# Altium footprint library SignalCommunications.PCBLIB: 466 footprints (part 25 of 30)
Each footprint in its own frame and in the unit in brackets; x right, y up, seen from the top. Pads: shape width x height; smd on the part's side, far side on the other; paste and mask are expansions set on the pad; w line width, h text height; cw(c..) or ccw(c..) is an arc to the next point about the centre after c.
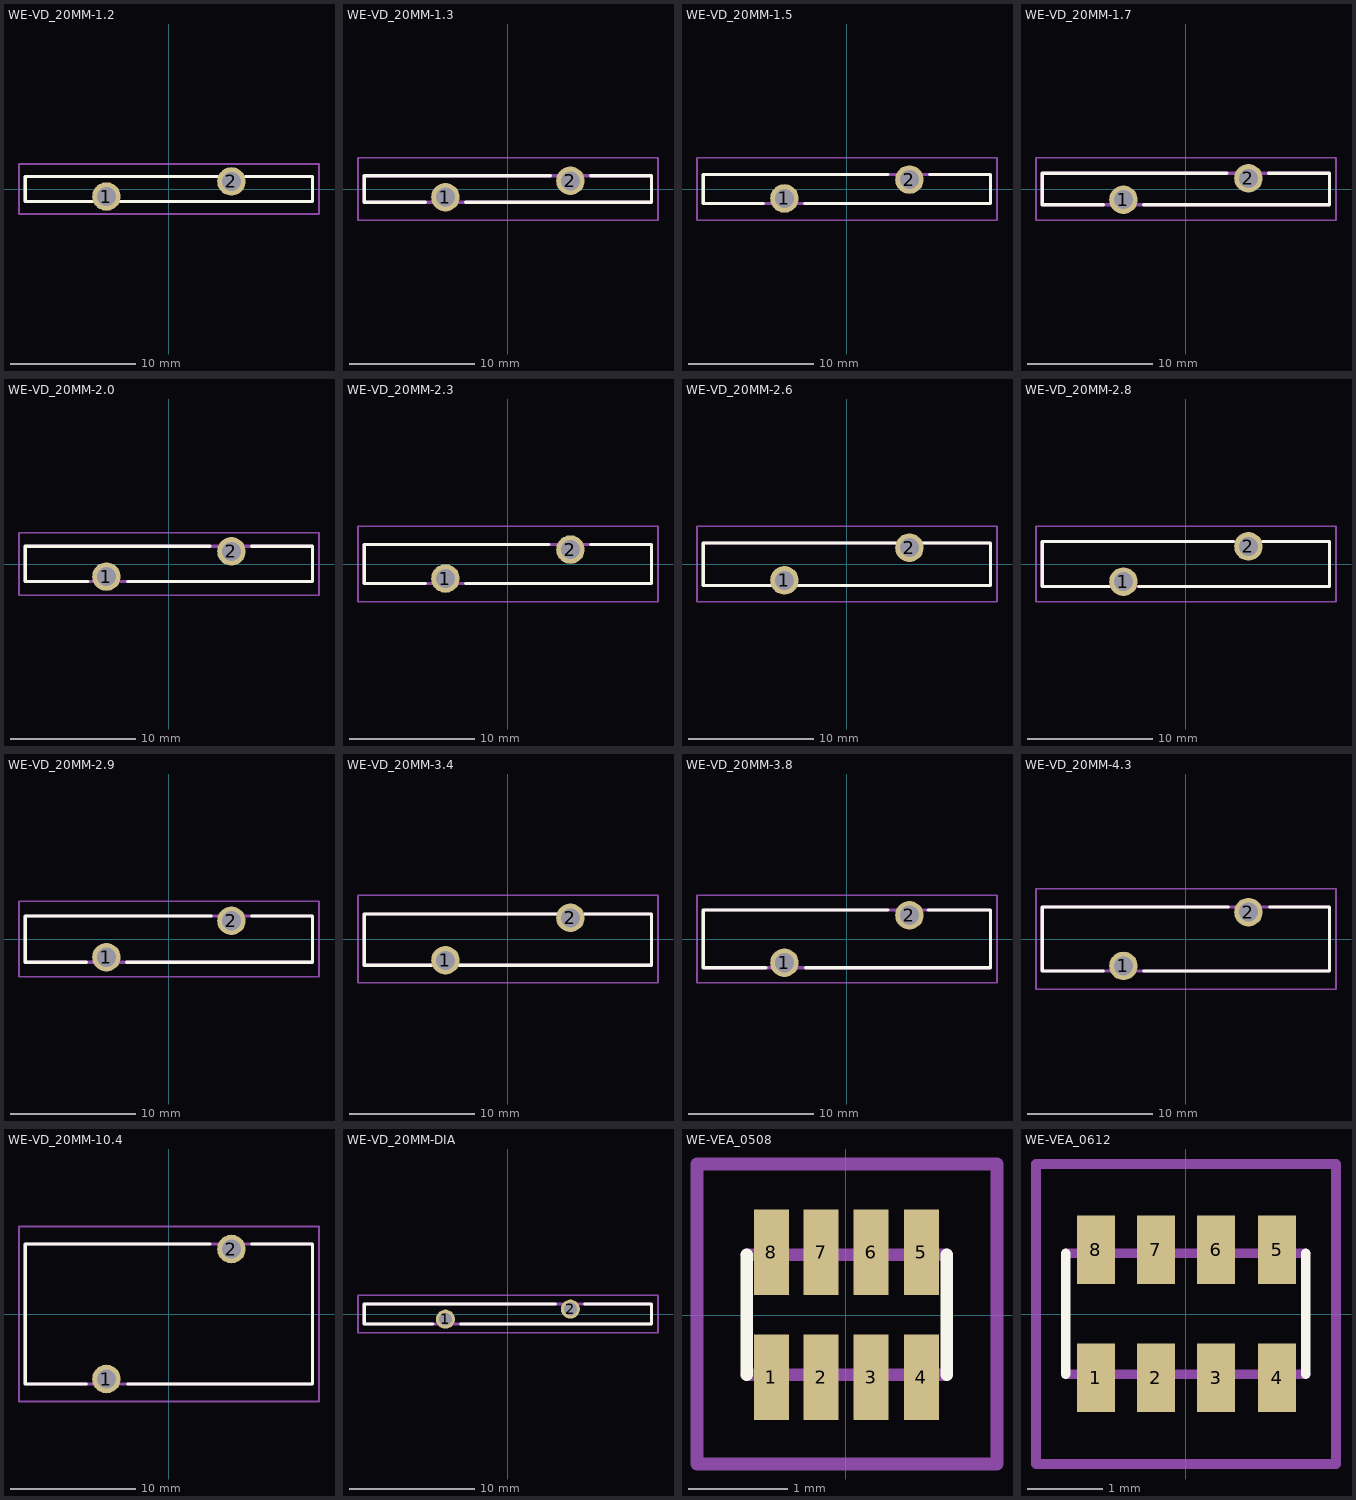
[diagram p24: the footprints below, top view; thin cyan lines are the x and y axes]

## WE-VD_20MM-1.2 [mil]
pads (2):
  round 90 hole 60: 1(-196.85,-23.62) 2(197,24)
Top Overlay:
  lines w10: -240.16,-39.37 -452.76,-39.37 -452.76,40 154,40 ; -153.54,-39.37 453,-39.37 453,40 241,40
Mechanical 16:
  lines w10: 453,-39.37 -452.76,-39.37 -452.76,40 453,40 453,-35.43
Mechanical 27:
  lines w5: -472.44,-78.74 473,-78.74 473,79 -472.44,79 -472.44,-78.74

## WE-VD_20MM-1.3 [mil]
pads (2):
  round 90 hole 60: 1(-196.85,-25.59) 2(197,26)
Top Overlay:
  lines w10: -259.84,-41.34 -452.76,-41.34 -452.76,42 134,42 ; -133.86,-41.34 453,-41.34 453,42 260,42
Mechanical 16:
  lines w10: -452.76,-41.34 -452.76,42 453,42 453,-41.34 -452.76,-41.34
Mechanical 27:
  lines w5: -472.44,-98.43 473,-98.43 473,99 -472.44,99 -472.44,-98.43

## WE-VD_20MM-1.5 [mil]
pads (2):
  round 90 hole 60: 1(-196.85,-29.53) 2(197,30)
Top Overlay:
  lines w10: -263.78,-45.28 -452.76,-45.28 -452.76,46 130,46 ; -133.86,-45.28 453,-45.28 453,46 260,46
Mechanical 16:
  lines w10: -452.76,-45.28 453,-45.28 453,46 -452.76,46 -452.76,-45.28
Mechanical 27:
  lines w5: -472.44,-98.43 -472.44,99 473,99 473,-98.43 -472.44,-98.43

## WE-VD_20MM-1.7 [mil]
pads (2):
  round 90 hole 60: 1(-196.85,-33.46) 2(197,34)
Top Overlay:
  lines w10: -452.76,46 -452.76,-49.21 -259.84,-49.21 ; -452.76,50 130,50 ; -133.86,-49.21 453,-49.21 453,50 260,50
Mechanical 16:
  lines w10: -452.76,50 -452.76,-49.21 453,-49.21 453,50 -448.82,50
Mechanical 27:
  lines w5: -472.44,-98.43 473,-98.43 473,99 -472.44,99 -472.44,-98.43

## WE-VD_20MM-2.0 [mil]
pads (2):
  round 90 hole 60: 1(-196.85,-39.37) 2(197,40)
Top Overlay:
  lines w10: -255.91,-55.12 -452.76,-55.12 -452.76,56 130,56 ; -129.92,-55.12 453,-55.12 453,56 260,56
Mechanical 16:
  lines w10: -452.76,-55.12 453,-55.12 453,56 -452.76,56 -452.76,-55.12
Mechanical 27:
  lines w5: -472.44,-98.43 473,-98.43 473,99 -472.44,99 -472.44,-98.43

## WE-VD_20MM-2.3 [mil]
pads (2):
  round 90 hole 60: 1(-196.85,-45.28) 2(197,46)
Top Overlay:
  lines w10: -452.76,62 -452.76,-61.02 -259.84,-61.02 ; -448.82,62 130,62 ; -133.86,-61.02 453,-61.02 453,62 260,62
Mechanical 16:
  lines w10: -452.76,-61.02 453,-61.02 453,62 -452.76,62 -452.76,-61.02
Mechanical 27:
  lines w5: -472.44,-118.11 473,-118.11 473,119 -472.44,119 -472.44,-118.11

## WE-VD_20MM-2.6 [mil]
pads (2):
  round 90 hole 60: 1(-196.85,-51.18) 2(197,52)
Top Overlay:
  lines w10: -236.22,-66.93 -452.76,-66.93 -452.76,67 154,67 ; -153.54,-66.93 453,-66.93 453,67 237,67
Mechanical 16:
  lines w10: -452.76,-66.93 453,-66.93 453,67 -452.76,67 -452.76,-66.93
Mechanical 27:
  lines w5: -472.44,-118.11 473,-118.11 473,119 -472.44,119 -472.44,-118.11

## WE-VD_20MM-2.8 [mil]
pads (2):
  round 90 hole 60: 1(-196.85,-55.12) 2(197,56)
Top Overlay:
  lines w10: -240.16,-70.87 -452.76,-70.87 -452.76,71 150,71 ; -149.61,-70.87 453,-70.87 453,71 241,71
Mechanical 16:
  lines w10: -452.76,-70.87 453,-70.87 453,71 -452.76,71 -452.76,-70.87
Mechanical 27:
  lines w5: -472.44,-118.11 473,-118.11 473,119 -472.44,119 -472.44,-118.11

## WE-VD_20MM-2.9 [mil]
pads (2):
  round 90 hole 60: 1(-196.85,-57.09) 2(197,58)
Top Overlay:
  lines w10: -452.76,73 -452.76,-72.83 -259.84,-72.83 ; -448.82,73 134,73 ; -133.86,-72.83 453,-72.83 453,73 260,73
Mechanical 16:
  lines w10: -452.76,-72.83 453,-72.83 453,73 -452.76,73 -452.76,-72.83
Mechanical 27:
  lines w5: -472.44,-118.11 473,-118.11 473,119 -472.44,119 -472.44,-118.11

## WE-VD_20MM-3.4 [mil]
pads (2):
  round 90 hole 60: 1(-196.85,-66.93) 2(197,67)
Top Overlay:
  lines w10: -240.16,-82.68 -452.76,-82.68 -452.76,79 154,79 ; -153.54,-82.68 453,-82.68 453,79 241,79
Mechanical 16:
  lines w10: -452.76,-82.68 453,-82.68 453,79 -452.76,79 -452.76,-82.68
Mechanical 27:
  lines w5: -472.44,-137.8 473,-137.8 473,138 -472.44,138 -472.44,-137.8

## WE-VD_20MM-3.8 [mil]
pads (2):
  round 90 hole 60: 1(-196.85,-74.8) 2(197,75)
Top Overlay:
  lines w10: -452.76,87 -452.76,-90.55 -255.91,-90.55 ; -452.76,91 130,91 ; -129.92,-90.55 453,-90.55 453,91 256,91
Mechanical 16:
  lines w10: -452.76,-90.55 453,-90.55 453,91 -452.76,91 -452.76,-90.55
Mechanical 27:
  lines w5: -472.44,-137.8 473,-137.8 473,138 -472.44,138 -472.44,-137.8

## WE-VD_20MM-4.3 [mil]
pads (2):
  round 90 hole 60: 1(-196.85,-84.65) 2(197,85)
Top Overlay:
  lines w10: -259.84,-100.39 -452.76,-100.39 -452.76,101 134,101 ; -133.86,-100.39 453,-100.39 453,101 264,101
Mechanical 16:
  lines w10: -452.76,101 -452.76,-100.39 453,-100.39 453,101 -448.82,101
Mechanical 27:
  lines w5: -472.44,-157.48 473,-157.48 473,158 -472.44,158 -472.44,-157.48

## WE-VD_20MM-10.4 [mil]
pads (2):
  round 90 hole 60: 1(-196.85,-204.72) 2(197,205)
Top Overlay:
  lines w10: -259.84,-220.47 -452.76,-220.47 -452.76,221 130,221 ; -129.92,-220.47 453,-220.47 453,221 260,221
Mechanical 16:
  lines w10: -452.76,-220.47 453,-220.47 453,221 -452.76,221 -452.76,-220.47
Mechanical 27:
  lines w5: -472.44,-275.59 473,-275.59 473,276 -472.44,276 -472.44,-275.59

## WE-VD_20MM-DIA [mil]
pads (2):
  round 60 hole 40: 1(-196.85,-15.75) 2(197,16)
Top Overlay:
  lines w10: -452.76,32 -452.76,-31.5 -236.22,-31.5 ; -448.82,32 150,32 ; -149.61,-31.5 453,-31.5 453,32 241,32
Mechanical 16:
  lines w10: -452.76,-31.5 453,-31.5 453,32 -452.76,32 -452.76,-31.5
Mechanical 27:
  lines w5: -472.44,-59.06 473,-59.06 473,60 -472.44,60 -472.44,-59.06

## WE-VEA_0508 [mil]
pads (8):
  rect 14x34 smd: 1(-29.53,-24.61) 2(-9.84,-24.61) 3(10,-24.61) 4(30,-24.61) 5(30,25) 6(10,25) 7(-9.84,25) 8(-29.53,25)
Top Overlay:
  lines w5: -39.37,-23.62 -39.37,24 ; 40,-23.62 40,24
Mechanical 16:
  lines w5: -39.37,-23.62 40,-23.62 ; -39.37,24 40,24
Mechanical 27:
  lines w5: -59.06,-59.06 60,-59.06 60,60 -59.06,60 -59.06,-59.06

## WE-VEA_0612 [mil]
pads (8):
  rect 20x36 smd: 1(-47.24,-33.46) 2(-15.75,-33.46) 3(16,-33.46) 4(48,-33.46) 5(48,34) 6(16,34) 7(-15.75,34) 8(-47.24,34)
Top Overlay:
  lines w5: -62.99,-31.5 -62.99,32 ; 63,-31.5 63,32
Mechanical 16:
  lines w5: -62.99,-31.5 63,-31.5 ; -62.99,32 63,32
Mechanical 27:
  lines w5: -78.74,-78.74 79,-78.74 79,79 -78.74,79 -78.74,-78.74